# Altium schematic symbol library ESP8266.SchLib: 1 symbol
Pins are listed as number, name and electrical type; pins without a type are passive.

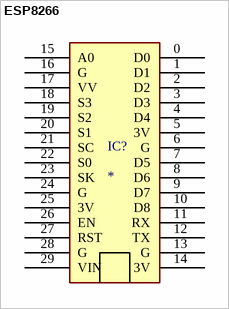
[diagram p0: symbol ESP8266]

## ESP8266
designator IC?
ESP8266-12E
footprint ESP8266
pins: 0 D0, 1 D1, 2 D2, 3 D3, 4 D4, 5 3V, 6 G, 7 D5, 8 D6, 9 D7, 10 D8, 11 RX, 12 TX, 13 G, 14 3V, 15 A0, 16 G, 17 VV, 18 S3, 19 S2, 20 S1, 21 SC, 22 S0, 23 SK, 24 G, 25 3V, 26 EN, 27 RST, 28 G, 29 VIN